# EAGLE library part FH12-28S-0.5S (library con-hirose)
0.5mm Pitch Connectors For FPC/FFC Source: Data sheet <http://www.hirose.co.jp/cataloge_hp/e58605370.pdf>
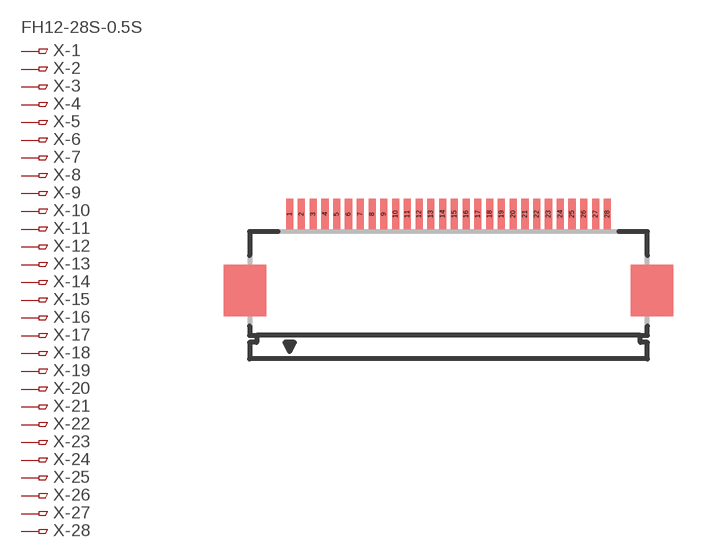
[diagram p46: symbol with the pads of FH12-28S-0.5SH; footprint FH12-28S-0.5SH]

Designator prefix X; gates -1=PINV -2=PIN -3=PIN -4=PIN -5=PIN -6=PIN -7=PIN -8=PIN -9=PIN -10=PIN -11=PIN -12=PIN -13=PIN -14=PIN -15=PIN -16=PIN -17=PIN -18=PIN -19=PIN -20=PIN -21=PIN -22=PIN -23=PIN -24=PIN -25=PIN -26=PIN -27=PIN -28=PIN

## FH12-28S-0.5SH  [FH12-28S-0.5SH]
1  -1:1  pas
2  -2:1  pas
3  -3:1  pas
4  -4:1  pas
5  -5:1  pas
6  -6:1  pas
7  -7:1  pas
8  -8:1  pas
9  -9:1  pas
10  -10:1  pas
11  -11:1  pas
12  -12:1  pas
13  -13:1  pas
14  -14:1  pas
15  -15:1  pas
16  -16:1  pas
17  -17:1  pas
18  -18:1  pas
19  -19:1  pas
20  -20:1  pas
21  -21:1  pas
22  -22:1  pas
23  -23:1  pas
24  -24:1  pas
25  -25:1  pas
26  -26:1  pas
27  -27:1  pas
28  -28:1  pas

## Footprint FH12-28S-0.5SH (pad centres in mm)
0.5mm Pitch Connectors For FPC/FFC Source: Data sheet <http://www.hirose.co.jp/cataloge_hp/e58605370.pdf>
smd 0.3 x 1.3: 1 -6.75,3.25; 2 -6.25,3.25; 3 -5.75,3.25; 4 -5.25,3.25; 5 -4.75,3.25; 6 -4.25,3.25; 7 -3.75,3.25; 8 -3.25,3.25; 9 -2.75,3.25; 10 -2.25,3.25; 11 -1.75,3.25; 12 -1.25,3.25; 13 -0.75,3.25; 14 -0.25,3.25; 15 0.25,3.25; 16 0.75,3.25; 17 1.25,3.25; 18 1.75,3.25; 19 2.25,3.25; 20 2.75,3.25; 21 3.25,3.25; 22 3.75,3.25; 23 4.25,3.25; 24 4.75,3.25; 25 5.25,3.25; 26 5.75,3.25; 27 6.25,3.25; 28 6.75,3.25